# Altium schematic symbol library ME6221CM5G.SchLib: 1 symbol
Pins are listed as number, name and electrical type; pins without a type are passive.

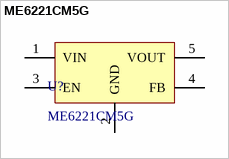
[diagram p0: symbol ME6221CM5G]

## ME6221CM5G
designator U?
Low Output Voltage 1.25V, Adjustable, 400mA
footprint SOT-23-5
pins: 1 VIN, 2 GND, 3 EN, 4 FB, 5 VOUT